# Altium schematic symbol library HIGH AMP IGBT DRIVER.SCHLIB: 72 symbols (part 2 of 2)
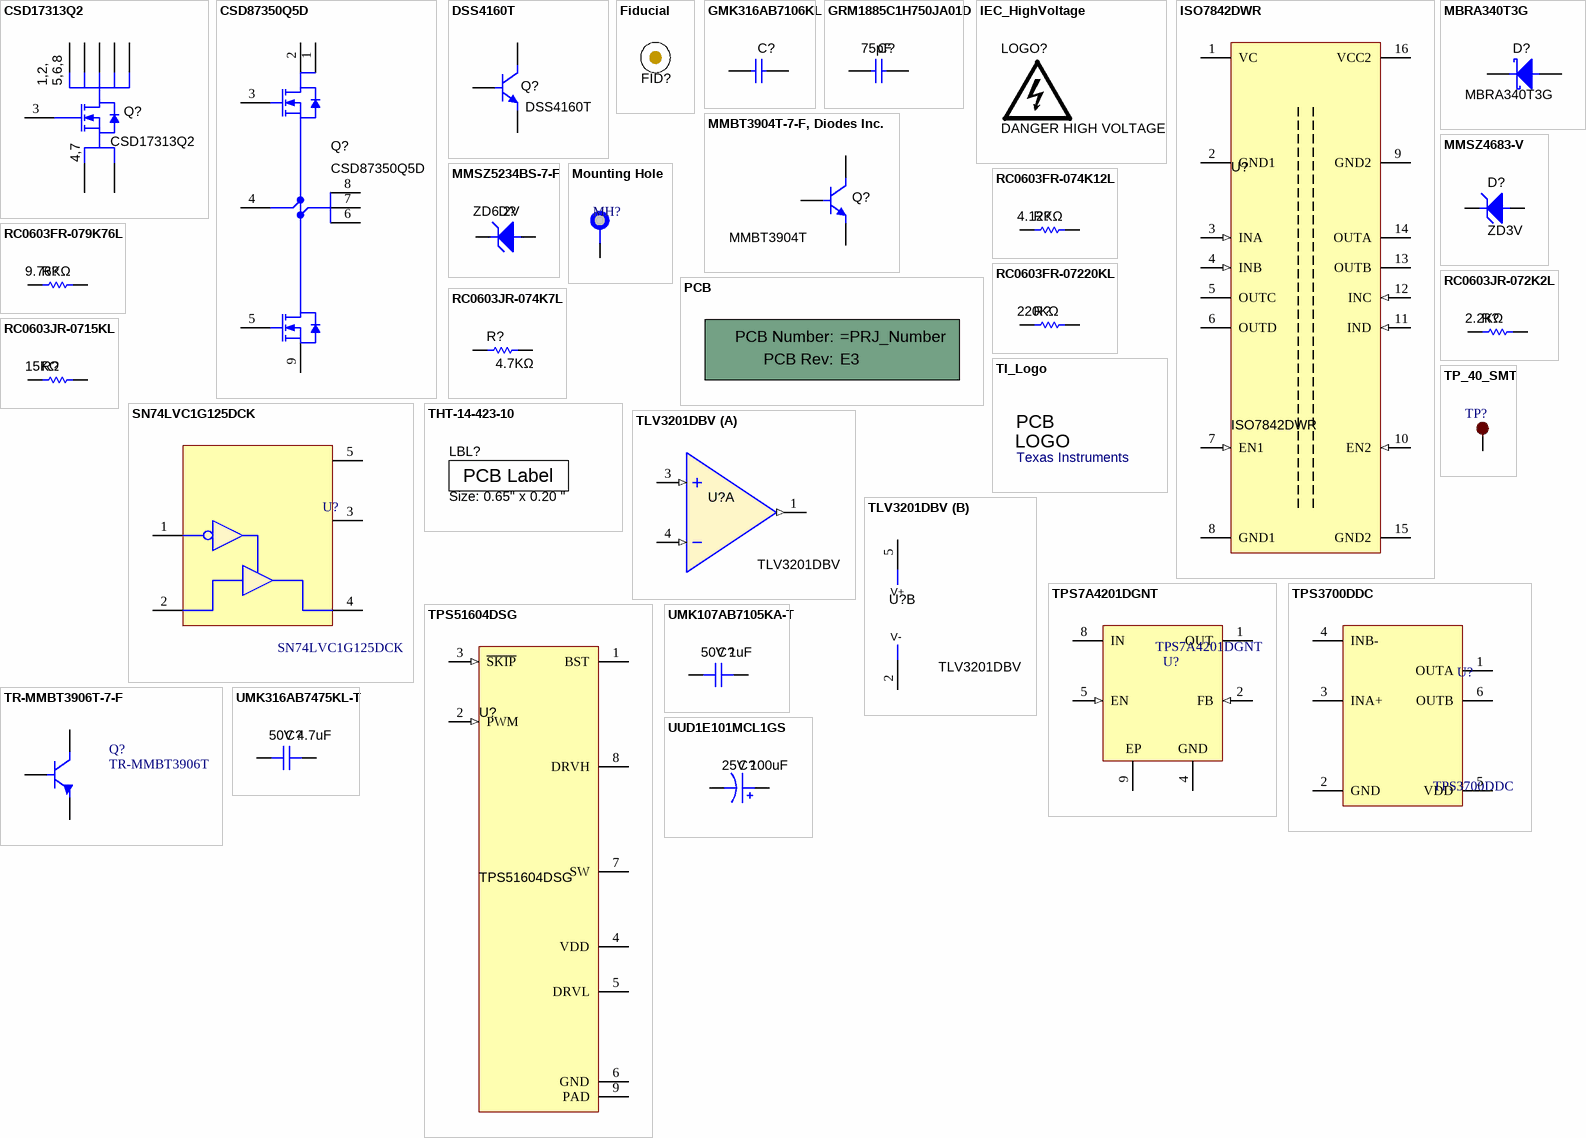
[diagram p2: symbols CSD17313Q2 to UUD1E101MCL1GS]

## UMK107AB7105KA-T
designator C?, comment 50V 1uF
CAP, CERM, 1 µF, 50 V, +/- 10%, X7R, 0603; PartNumber: UMK107AB7105KA-T; Manufacturer: Taiyo Yuden; Polarized: N; CompType: Capacitor; U/M: EA; Cap_F: 0.000001; Tolerance_%: 10; Value1: Unknown; VDC_V: 50; TaMin_C: -55; TaMax_C: 125; Cap_Case: 0603; SymbolVersion: 2008-07-09; Value: 1uF; PackageReference: 0603; RoHS: Y; Value2: 50V; MountType: SMT; Technology: Ceramic; TempCo: X7R; Published: 2008-06-19; Publisher: Texas Instruments; LatestRevisionDate: 2015-04-23; ComponentLink1Description: Datasheet link; ComponentLink1URL: http://www.yuden.co.jp/ut/product/category/capacitor/UMK107AB7105KA-T.pdf; Supplier 1: Digi-Key; Supplier Part Number 1: 587-3247-1-ND; Supplier 2: Mouser; Supplier Part Number 2: 963-UMK107AB7105KA-T; Supplier 3: Newark; Supplier Part Number 3: 45W1781
signal-integrity model Cap
simulation model Cap
footprint 0603
footprint 0603M
footprint 0603L
footprint 0603_HV
footprint 0603S
pins: 1, 2

## UMK316AB7475KL-T
designator C?, comment 50V 4.7uF
CAP, CERM, 4.7 µF, 50 V, +/- 10%, X7R, 1206_190; PartNumber: UMK316AB7475KL-T; Manufacturer: Taiyo Yuden; Polarized: N; CompType: Capacitor; U/M: EA; Cap_F: 0.0000047; Tolerance_%: 10; Value1: Unknown; VDC_V: 50; TaMin_C: -55; TaMax_C: 125; Cap_Case: 1206; SymbolVersion: 2008-07-09; Value: 4.7uF; PackageReference: 1206_190; RoHS: Y; Value2: 50V; MountType: SMT; Technology: Ceramic; TempCo: X7R; Published: 2008-06-19; Publisher: Texas Instruments; LatestRevisionDate: 2015-05-02; ComponentLink1Description: Datasheet link; ComponentLink1URL: http://www.yuden.co.jp/productdata/catalog/en/mlcc_all_e.pdf; Supplier 1: Digi-Key; Supplier Part Number 1: 587-2994-2-ND; Supplier 2: Mouser; Supplier Part Number 2: 963-UMK316AB7475KL-T; Supplier 3: Farnell; Supplier Part Number 3: 2371497
signal-integrity model Cap
simulation model Cap
footprint 1206_190
pins: 1, 2

## UUD1E101MCL1GS
designator C?, comment 25V 100uF
CAP, AL, 100 µF, 25 V, +/- 20%, 0.34 ohm, SMD; PartNumber: UUD1E101MCL1GS; Manufacturer: Nichicon; Polarized: Y; CompType: Capacitor; Value: 100V 100uF; U/M: EA; Cap_F: 0.0001; Tolerance_%: 20; VDC_V: 25; ESR_ohm: 0.34; IRMS_A: 0.28; TaMin_C: -55; TaMax_C: 105; Cap_Case: 6.3x7.7; SymbolVersion: 2008-07-09; PackageReference: 6.3x7.7; RoHS: Y; Value1: 0.34 ohm; Value2: 25V; MountType: SMT; Technology: AL; Series: uD; Publisher: Texas Instruments; LatestRevisionDate: 2015-04-24; ComponentLink1Description: Datasheet link; ComponentLink1URL: http://products.nichicon.co.jp/en/pdf/XJA043/e-ud.pdf; Supplier 1: Digi-Key; Supplier Part Number 1: 493-2276-1-ND; Supplier 2: Mouser; Supplier Part Number 2: 647-UUD1E101MCL; Supplier 3: Farnell; Supplier Part Number 3: 1823571
signal-integrity model Cap
simulation model Cap
footprint SM_RADIAL_6.3BMM
pins: 1 +, 2 -